# Altium schematic symbol library BFR193F.SchLib: 1 symbol
Pins are listed as number, name and electrical type; pins without a type are passive.

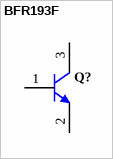
[diagram p0: symbol BFR193F]

## BFR193F
designator Q?
NPN Silicon RF Transistor, 12 V VCEO, 80 mA IC, 19 dB Gmax, TSFP-3-1, Green; Manufacturer: Infineon; PartNumber: BFR193F; Gmax (typ): 19 dB; Green: yes; Group: For low frequencies, e.g. VHF/UHF; IC (max): 80 mA; NFmin (typ): 1 dB; Ptot (max): 580mW; VCEO (max): 12 V; DatasheetVersion: Aug-2012; PackageReference: TSFP-3-1; PackageDescription: 3-Pin Thin Small Flat Package, 0.8 x 1.2 mm Body, 0.4 mm Pitch; Halogen-free: yes; Mounting Technology: Surface Mount; ComponentLink1Description: Manufacturer URL; ComponentLink1URL: http://www.infineon.com/; ComponentLink2Description: Datasheet; ComponentLink2URL: http://www.infineon.com/dgdl/bfr193f.pdf?folderId=db3a30431400ef68011425b2dfaf05c6&fileId=db3a30431441fb5d0114acfcde76152c&location=en.Products.RF.RF_Transistors_.High_Linearity_Si-_and_SiGe_C-Transistors_for_use_up_to_6_GHz.DATASHEET.bfr193f.pdf; ComponentLink3Description: Package Specification; ComponentLink3URL: http://www.infineon.com/dgdl/TSSFP-3-1-Package_Overview.pdf?folderId=db3a30431936bc4b011953c8310c373d&fileId=db3a30431936bc4b011953d3a42e3756
footprint INF-TSFP-3-1_N (SOT23, 3-Leads, Body 1.2x0.8 mm, Pitch 0.4 mm, IPC Medium Density)
footprint INF-TSFP-3-1_L (SOT23, 3-Leads, Body 1.2x0.8 mm, Pitch 0.4 mm, IPC High Density)
footprint INF-TSFP-3-1_M (SOT23, 3-Leads, Body 1.2x0.8 mm, Pitch 0.4 mm, IPC Low Density)
pins: 1 B, 2 E, 3 C